# EAGLE library part ARDUINO_MEGA_PINS (library 6502_lib)
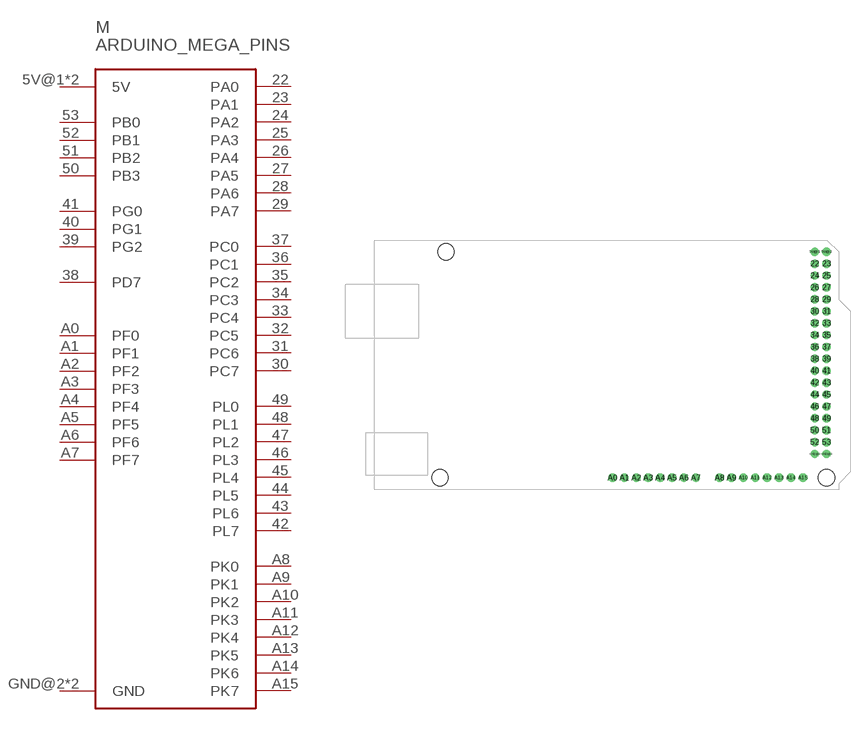
[diagram p0: symbol with the pads of ARDUINO_MEGA_PINS; footprint ARDUINO_MEGA_PINS]

Designator prefix M

## ARDUINO_MEGA_PINS  [ARDUINO_MEGA_PINS]
5V@1  5V
5V@2  5V
22  PA0
23  PA1
24  PA2
25  PA3
26  PA4
27  PA5
28  PA6
29  PA7
30  PC7
31  PC6
32  PC5
33  PC4
34  PC3
35  PC2
36  PC1
37  PC0
38  PD7
39  PG2
40  PG1
41  PG0
42  PL7
43  PL6
44  PL5
45  PL4
46  PL3
47  PL2
48  PL1
49  PL0
50  PB3
51  PB2
52  PB1
53  PB0
A0  PF0
A1  PF1
A2  PF2
A3  PF3
A4  PF4
A5  PF5
A6  PF6
A7  PF7
A8  PK0
A9  PK1
A10  PK2
A11  PK3
A12  PK4
A13  PK5
A14  PK6
A15  PK7
GND@2  GND
GND@3  GND

## Footprint ARDUINO_MEGA_PINS (pad centres in mm)
Arduino MEGA R3 footprint Specifications: Pin count:82 Area:4x2.15 in Example device(s): Arduino Mega R3
drill 1.016 pad 1.778: 5V@1 44.45,24.13; 5V@2 46.99,24.13; 22 44.45,21.59; 23 46.99,21.59; 24 44.45,19.05; 25 46.99,19.05; 26 44.45,16.51; 27 46.99,16.51; 28 44.45,13.97; 29 46.99,13.97; 30 44.45,11.43; 31 46.99,11.43; 32 44.45,8.89; 33 46.99,8.89; 34 44.45,6.35; 35 46.99,6.35; 36 44.45,3.81; 37 46.99,3.81; 38 44.45,1.27; 39 46.99,1.27; 40 44.45,-1.27; 41 46.99,-1.27; 42 44.45,-3.81; 43 46.99,-3.81; 44 44.45,-6.35; 45 46.99,-6.35; 46 44.45,-8.89; 47 46.99,-8.89; 48 44.45,-11.43; 49 46.99,-11.43; 50 44.45,-13.97; 51 46.99,-13.97; 52 44.45,-16.51; 53 46.99,-16.51; A0 1.27,-24.13; A1 3.81,-24.13; A2 6.35,-24.13; A3 8.89,-24.13; A4 11.43,-24.13; A5 13.97,-24.13; A6 16.51,-24.13; A7 19.05,-24.13; A8 24.13,-24.13; A9 26.67,-24.13; A10 29.21,-24.13; A11 31.75,-24.13; A12 34.29,-24.13; A13 36.83,-24.13; A14 39.37,-24.13; A15 41.91,-24.13; GND@2 44.45,-19.05; GND@3 46.99,-19.05
hole 3.5 at -34.29,24.13
hole 3.5 at -35.56,-24.13
hole 3.5 at 46.99,-24.13